# Altium integrated library ADS1220IPWR.IntLib: 1 symbol
Pins are listed as number, name and electrical type; pins without a type are passive.

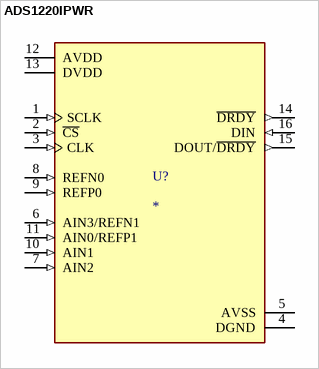
[diagram p0: symbol ADS1220IPWR]

## ADS1220IPWR
designator U?
24-bit, 2-kSPS, four-channel, low-power, delta-sigma ADC with PGA, VREF, SPI and two IDACs; MF: Texas Instruments; MP: ADS1220IPWR; SnapEDA_Link: https://www.snapeda.com/parts/ADS1220IPWR/Texas+Instruments/view-part/?ref=snap; Package: TSSOP-16 Texas Instruments; Value: *; Check_prices: https://www.snapeda.com/parts/ADS1220IPWR/Texas+Instruments/view-part/?ref=eda
footprint SOP65P640X120-16N
pins: 1 SCLK (in), 2 ~{CS} (in), 3 CLK (in), 4 DGND (power), 5 AVSS (power), 6 AIN3/REFN1 (in), 7 AIN2 (in), 8 REFN0 (in), 9 REFP0 (in), 10 AIN1 (in), 11 AIN0/REFP1 (in), 12 AVDD (power), 13 DVDD (power), 14 ~{DRDY} (out), 15 DOUT/~{DRDY} (out), 16 DIN (in)